# Altium schematic symbol library Nano.SchLib: 9 symbols
Pins are listed as number, name and electrical type; pins without a type are passive.

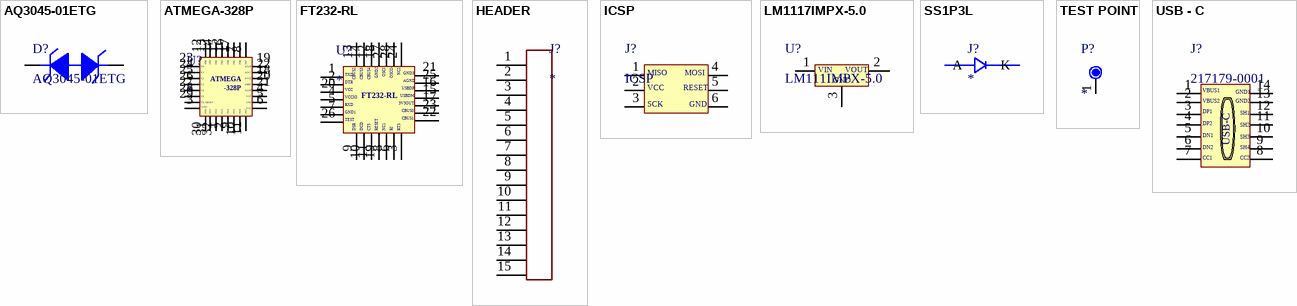
[diagram p0: symbols AQ3045-01ETG to USB - C]

## AQ3045-01ETG
designator D?
Bi 30Kv 5V 0.35Pf Automotve Tvs Sod882/ T&r Rohs Compliant: Yes |Littelfuse AQ3045-01ETG
footprint AQ3045-01ETG
pins: 0, 1

## ATMEGA-328P
designator U?
AVR AVR® ATmega, Functional Safety (FuSa) Microcontroller IC 8-Bit 20MHz 32KB (16K x 16) FLASH 32-TQFP (7x7)
footprint ATMEGA-328P
pins: 1 5, 2 4, 3 1, 4 6, 5 8, 6 7, 7 8, 8 7, 9 3, 10 2, 11 1, 12 1, 13 2, 14 3, 15 4, 16 5, 17 6, 18 3, 19 1, 20 4, 21 5, 22 2, 23 7, 24 8, 25 6, 26 5, 27 4, 28 3, 29 2, 30 7, 31 8, 32 6
text: PB0; PB1; PB2; PB3; PB4; PB5; PB6; PB7; PC0; PC1; ADC6; ADC7; PC2; AVCC; PC3; ATMEGA; AREF; PC4; -328P; AGND; PC5; PC6 / RESET; GND; VCC; PD0; PD1; PD2; PD3; PD4; PD5; PD6; PD7

## FT232-RL
designator U?
USB Bridge, USB to UART USB 2.0 UART Interface 28-SSOP
footprint FT232-RL
pins: 1 5, 2 5, 3 5, 4 5, 5, 6 5, 7 5, 8 5, 9 5, 10 5, 11 5, 12 5, 13 5, 14 5, 15 5, 16 5, 17 5, 18 5, 19 5, 20 5, 21 5, 22 5, 23 5, 24 5, 25 5, 26 5, 27 5, 28 5
text: OSCI; GND3; NC2; TXD; CBUS2; CBUS3; CBUS4; GND2; OSCO; AGND; DTR; USBDP; VCC; USBDM; VCCIO; 3V3OUT; RXD; CBUS0; GND1; CBUS1; TEST; DSR; DCD; CTS; RESET; NC1; RI; RTS

## HEADER
designator J?
Header Pins placements
footprint HEADER
pins: 1 15, 2 16, 3 17, 4 18, 5 15, 6 16, 7 17, 8 18, 9 15, 10 16, 11 17, 12 18, 13 15, 14 16, 15 17

## ICSP
designator J?
footprint ICSP
pins: 1 6, 2 7, 3 8, 4 9, 5 10, 6 11
text: MISO; MOSI; VCC; RESET; SCK; GND

## LM1117IMPX-5.0
designator U?, comment LM111IMPX-5.0
Linear Voltage Regulator IC Positive Fixed 1 Output 800mA SOT-223-4
footprint LM1117IMPX-5.0
pins: 1 12, 2 14, 3 13
text: VIN; VOUT; GND

## SS1P3L
designator J?
Diode Schottky 30 V 1.5A Surface Mount DO-220AA (SMP); MF: Vishay Semiconductor; MP: SS1P3L; SnapEDA_Link: https://www.snapeda.com/parts/SS1P3L/Vishay/view-part/?ref=snap; Package: MicroSMP Vishay General Semiconductor - Diodes Division; Value: *; Check_prices: https://www.snapeda.com/parts/SS1P3L/Vishay/view-part/?ref=eda
footprint SS1P3L
pins: A, K

## TEST POINT
designator P?
footprint TEST POINT
pins: 1 19

## USB - C
designator J?, comment 217179-0001
USB Connector, USB Type C, USB 2.0, Receptacle, 16 Ways, Surface Mount, Through Hole Mount
footprint 2171790001
pins: 1 8, 2 9, 3 10, 4 11, 5 8, 6 9, 7 10, 8, 9, 10, 11 8, 12 9, 13 10, 14 11
text: VBUS1; GND1; VBUS2; GND2; DP1; SH1; DP2; SH2; DN1; SH3; USB-C; DN2; SH4; CC1; CC2